# Altium schematic symbol library Holder.SchLib: 2 symbols
Pins are listed as number, name and electrical type; pins without a type are passive.

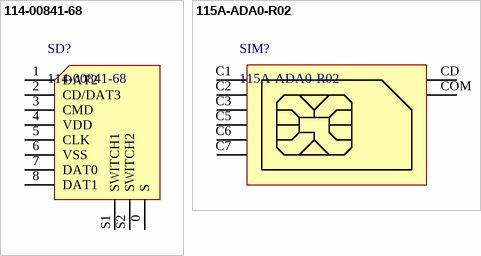
[diagram p0: symbols 114-00841-68 to 115A-ADA0-R02]

## 114-00841-68
designator SD?
CONN MICRO SD CARD PUSH-PULL R/A; Manufacturer: Amphenol Commercial Products; Mount Type: SMD; Supplier 1: Digi-Key; Supplier Part Number 1: 114-00841-68-1-ND
footprint 114-00841-68
pins: 0 S, 1 DAT2, 2 CD/DAT3, 3 CMD, 4 VDD, 5 CLK, 6 VSS, 7 DAT0, 8 DAT1, S1 SWITCH1, S2 SWITCH2

## 115A-ADA0-R02
designator SIM?
SIM Card Socket; Manufacturer: Attend; Mount Type: SMD; Supplier 1: Itech; Supplier Part Number 1: *
footprint 115A-ADA0-R02
pins: C1, C2, C3, C5, C6, C7, CD, COM